# EAGLE library part TPA3136D2PWPR (library TPA3136D2PWPR)
Check prices <https://pricing.snapeda.com/parts/TPA3136D2PWPR/Texas%20Instruments/view-part?ref=eda>
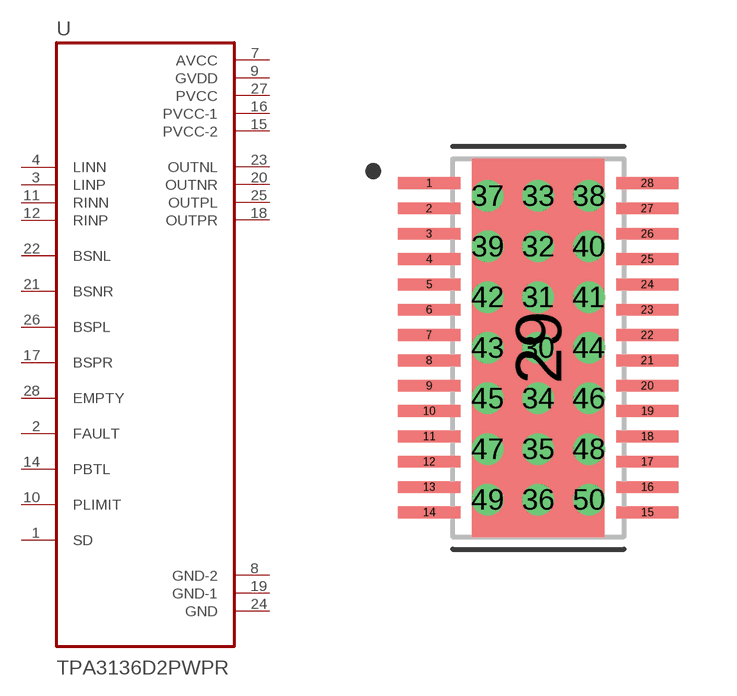
[diagram p0: symbol with the pads of IC_TPS61196PWPRQ1; footprint IC_TPS61196PWPRQ1]

Designator prefix U

## TPA3136D2PWPR (Availability: Good; Description: 10-W stereo, 20-W mono, 4.5- to 14.4-V, analog in Class-D audio amplifier w/ inductor free & low EMI 28-HTSSOP -40 to 85; MF: Texas Instruments; MP: TPA3136D2PWPR; Package: HTSSOP-28 Texas Instruments; Price: None; Purchase-URL: https://pricing.snapeda.com/search/part/TPA3136D2PWPR/?ref=eda)  [IC_TPS61196PWPRQ1]
1  SD
2  FAULT
3  LINP  in
4  LINN  in
7  AVCC  pwr
8  GND-2  pwr
9  GVDD  pwr
10  PLIMIT
11  RINN  in
12  RINP  in
14  PBTL
15  PVCC-2  pwr
16  PVCC-1  pwr
17  BSPR
18  OUTPR  out
19  GND-1  pwr
20  OUTNR  out
21  BSNR
22  BSNL
23  OUTNL  out
24  GND  pwr
25  OUTPL  out
26  BSPL
27  PVCC  pwr
28  EMPTY

## Footprint IC_TPS61196PWPRQ1 (pad centres in mm)
smd 1.6 x 0.3: 1 -2.8,4.225; 2 -2.8,3.575; 3 -2.8,2.925; 4 -2.8,2.275; 5 -2.8,1.625; 6 -2.8,0.975; 7 -2.8,0.325; 8 -2.8,-0.325; 9 -2.8,-0.975; 10 -2.8,-1.625; 11 -2.8,-2.275; 12 -2.8,-2.925; 13 -2.8,-3.575; 14 -2.8,-4.225; 15 2.8,-4.225; 16 2.8,-3.575; 17 2.8,-2.925; 18 2.8,-2.275; 19 2.8,-1.625; 20 2.8,-0.975; 21 2.8,-0.325; 22 2.8,0.325; 23 2.8,0.975; 24 2.8,1.625; 25 2.8,2.275; 26 2.8,2.925; 27 2.8,3.575; 28 2.8,4.225
smd 3.4 x 9.7: 29 0,0
drill 0.3 pad 0.5: 30 0,0; 31 0,1.3; 32 0,2.6; 33 0,3.9; 34 0,-1.3; 35 0,-2.6; 36 0,-3.9; 37 -1.3,3.9; 38 1.3,3.9; 39 -1.3,2.6; 40 1.3,2.6; 41 1.3,1.3; 42 -1.3,1.3; 43 -1.3,0; 44 1.3,0; 45 -1.3,-1.3; 46 1.3,-1.3; 47 -1.3,-2.6; 48 1.3,-2.6; 49 -1.3,-3.9; 50 1.3,-3.9